# EAGLE library part LORA-0100-1 (library PonLib)
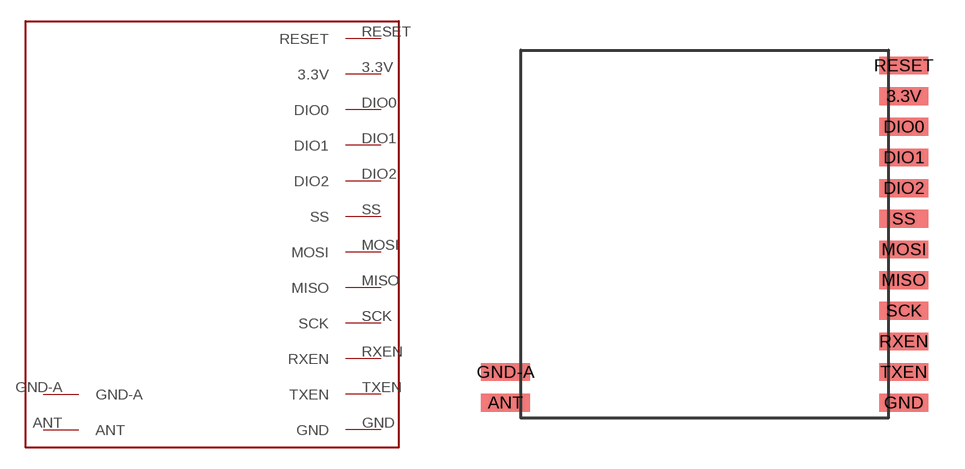
[diagram p27: symbol with the pads of LORA-0100-1; footprint LORA-0100-1]

Designator prefix -

## LORA-0100-1  [LORA-0100-1]
3.3V  3.3V
ANT  ANT
DIO0  DIO0
DIO1  DIO1
DIO2  DIO2
GND  GND
GND-A  GND-A
MISO  MISO
MOSI  MOSI
RESET  RESET
RXEN  RXEN
SCK  SCK
SS  SS
TXEN  TXEN

## Footprint LORA-0100-1 (pad centres in mm)
smd 2.032 x 0.737: 3.3V 8.255,5.715; ANT -8.255,-6.985; DIO0 8.255,4.445; DIO1 8.255,3.175; DIO2 8.255,1.905; GND 8.255,-6.985; GND-A -8.255,-5.715; MISO 8.255,-1.905; MOSI 8.255,-0.635; RESET 8.255,6.985; RXEN 8.255,-4.445; SCK 8.255,-3.175; SS 8.255,0.635; TXEN 8.255,-5.715